# Altium integrated library 2KBPxxM.IntLib: 1 symbol
Pins are listed as number, name and electrical type; pins without a type are passive.

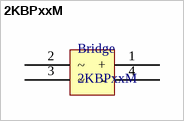
[diagram p0: symbol 2KBPxxM]

## 2KBPxxM
designator Bridge
Bridge-2KBPxxM
footprint 2kbp2KBPxxM
pins: 1 +, 2 ~, 3 ~, 4 -